# Altium schematic symbol library Sensor_Current.SchLib: 253 symbols (part 1 of 3)
Pins are listed as number, name and electrical type; pins without a type are passive.

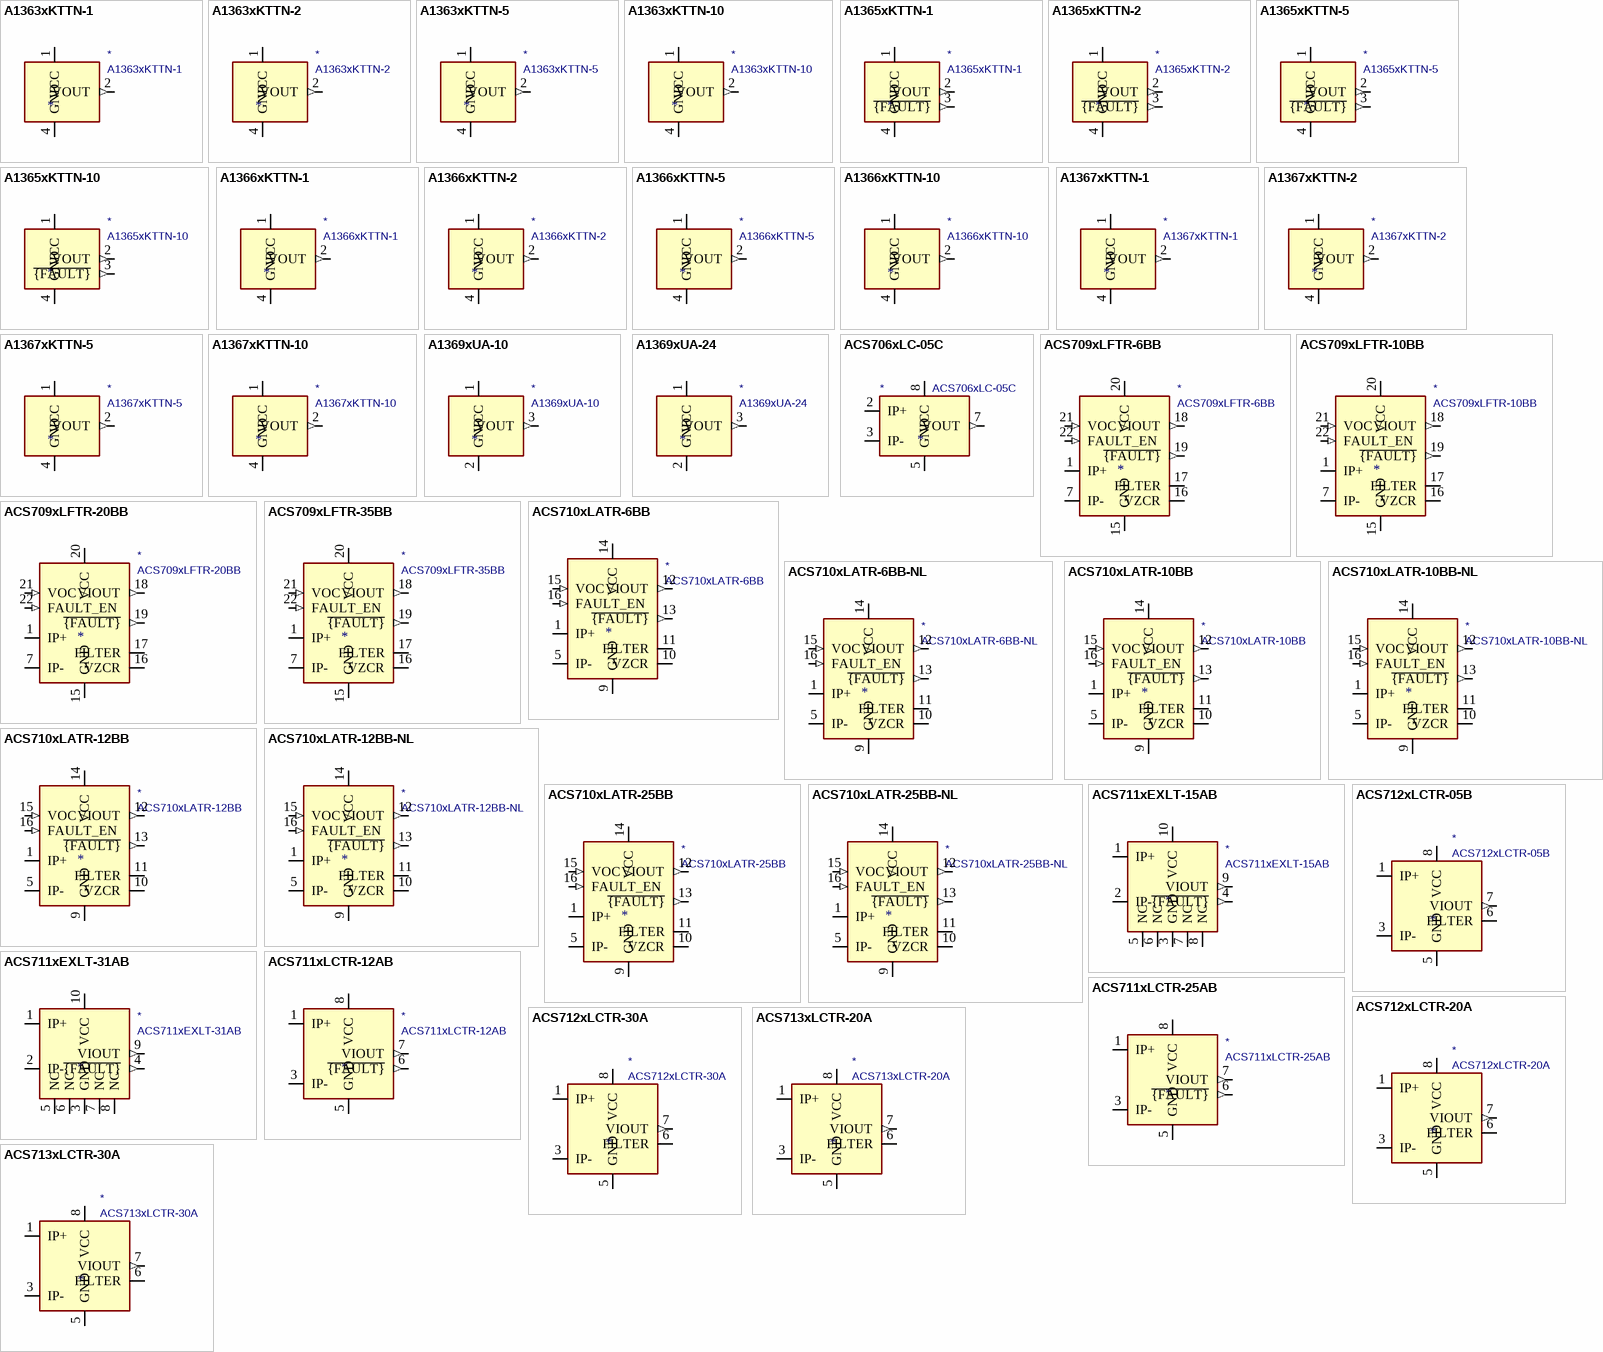
[diagram p0: symbols A1363xKTTN-1 to ACS713xLCTR-30A]

## A1363xKTTN-1
designator *  value A1363xKTTN-1
ki_keywords: hall effect current monitor sensor isolated; ki_description: Programmable Linear Hall Effect Sensor, +0.6 to +1.3mV/G, SIP-4; ki_fp_filters: Allegro*SIP*; Footprint: Sensor_Current:Allegro_SIP-4; Supplier: http://www.allegromicro.com/~/media/Files/Datasheets/A1363-Datasheet.ashx?la=en
footprint Allegro_SIP-4
pins: 1 VCC (power), 2 VOUT (out), 3 NC (in) hidden, 4 GND (power)

## A1363xKTTN-2
designator *  value A1363xKTTN-2
ki_keywords: hall effect current monitor sensor isolated; ki_description: Programmable Linear Hall Effect Sensor, +1.3 to +2.9mV/G, SIP-4; ki_fp_filters: Allegro*SIP*; Footprint: Sensor_Current:Allegro_SIP-4; Supplier: http://www.allegromicro.com/~/media/Files/Datasheets/A1363-Datasheet.ashx?la=en
footprint Allegro_SIP-4
pins: 1 VCC (power), 2 VOUT (out), 3 NC (in) hidden, 4 GND (power)

## A1363xKTTN-5
designator *  value A1363xKTTN-5
ki_keywords: hall effect current monitor sensor isolated; ki_description: Programmable Linear Hall Effect Sensor, +2.9 to +6.4mV/G, SIP-4; ki_fp_filters: Allegro*SIP*; Footprint: Sensor_Current:Allegro_SIP-4; Supplier: http://www.allegromicro.com/~/media/Files/Datasheets/A1363-Datasheet.ashx?la=en
footprint Allegro_SIP-4
pins: 1 VCC (power), 2 VOUT (out), 3 NC (in) hidden, 4 GND (power)

## A1363xKTTN-10
designator *  value A1363xKTTN-10
ki_keywords: hall effect current monitor sensor isolated; ki_description: Programmable Linear Hall Effect Sensor, +6.4 to +14mV/G, SIP-4; ki_fp_filters: Allegro*SIP*; Footprint: Sensor_Current:Allegro_SIP-4; Supplier: http://www.allegromicro.com/~/media/Files/Datasheets/A1363-Datasheet.ashx?la=en
footprint Allegro_SIP-4
pins: 1 VCC (power), 2 VOUT (out), 3 NC (in) hidden, 4 GND (power)

## A1365xKTTN-1
designator *  value A1365xKTTN-1
ki_keywords: hall effect current monitor sensor isolated; ki_description: Programmable Linear Hall Effect Sensor, +0.6 to +1.3mV/G, SIP-4; ki_fp_filters: Allegro*SIP*; Footprint: Sensor_Current:Allegro_SIP-4; Supplier: http://www.allegromicro.com/~/media/Files/Datasheets/A1365-Datasheet.ashx?la=en
footprint Allegro_SIP-4
pins: 1 VCC (power), 2 VOUT (out), 3 ~{{FAULT}} (out), 4 GND (power)

## A1365xKTTN-2
designator *  value A1365xKTTN-2
ki_keywords: hall effect current monitor sensor isolated; ki_description: Programmable Linear Hall Effect Sensor, +1.3 to +2.9mV/G, SIP-4; ki_fp_filters: Allegro*SIP*; Footprint: Sensor_Current:Allegro_SIP-4; Supplier: http://www.allegromicro.com/~/media/Files/Datasheets/A1365-Datasheet.ashx?la=en
footprint Allegro_SIP-4
pins: 1 VCC (power), 2 VOUT (out), 3 ~{{FAULT}} (out), 4 GND (power)

## A1365xKTTN-5
designator *  value A1365xKTTN-5
ki_keywords: hall effect current monitor sensor isolated; ki_description: Programmable Linear Hall Effect Sensor, +2.9 to +6.4mV/G, SIP-4; ki_fp_filters: Allegro*SIP*; Footprint: Sensor_Current:Allegro_SIP-4; Supplier: http://www.allegromicro.com/~/media/Files/Datasheets/A1365-Datasheet.ashx?la=en
footprint Allegro_SIP-4
pins: 1 VCC (power), 2 VOUT (out), 3 ~{{FAULT}} (out), 4 GND (power)

## A1365xKTTN-10
designator *  value A1365xKTTN-10
ki_keywords: hall effect current monitor sensor isolated; ki_description: Programmable Linear Hall Effect Sensor, +6.4 to +14mV/G, SIP-4; ki_fp_filters: Allegro*SIP*; Footprint: Sensor_Current:Allegro_SIP-4; Supplier: http://www.allegromicro.com/~/media/Files/Datasheets/A1365-Datasheet.ashx?la=en
footprint Allegro_SIP-4
pins: 1 VCC (power), 2 VOUT (out), 3 ~{{FAULT}} (out), 4 GND (power)

## A1366xKTTN-1
designator *  value A1366xKTTN-1
ki_keywords: hall effect current monitor sensor isolated; ki_description: Programmable Linear Hall Effect Sensor, +1mV/G, SIP-4; ki_fp_filters: Allegro*SIP*; Footprint: Sensor_Current:Allegro_SIP-4; Supplier: http://www.allegromicro.com/~/media/Files/Datasheets/A1366-Datasheet.ashx?la=en
footprint Allegro_SIP-4
pins: 1 VCC (power), 2 VOUT (out), 3 NC (in) hidden, 4 GND (power)

## A1366xKTTN-2
designator *  value A1366xKTTN-2
ki_keywords: hall effect current monitor sensor isolated; ki_description: Programmable Linear Hall Effect Sensor, +2.5mV/G, SIP-4; ki_fp_filters: Allegro*SIP*; Footprint: Sensor_Current:Allegro_SIP-4; Supplier: http://www.allegromicro.com/~/media/Files/Datasheets/A1366-Datasheet.ashx?la=en
footprint Allegro_SIP-4
pins: 1 VCC (power), 2 VOUT (out), 3 NC (in) hidden, 4 GND (power)

## A1366xKTTN-5
designator *  value A1366xKTTN-5
ki_keywords: hall effect current monitor sensor isolated; ki_description: Programmable Linear Hall Effect Sensor, +5mV/G, SIP-4; ki_fp_filters: Allegro*SIP*; Footprint: Sensor_Current:Allegro_SIP-4; Supplier: http://www.allegromicro.com/~/media/Files/Datasheets/A1366-Datasheet.ashx?la=en
footprint Allegro_SIP-4
pins: 1 VCC (power), 2 VOUT (out), 3 NC (in) hidden, 4 GND (power)

## A1366xKTTN-10
designator *  value A1366xKTTN-10
ki_keywords: hall effect current monitor sensor isolated; ki_description: Programmable Linear Hall Effect Sensor, +10mV/G, SIP-4; ki_fp_filters: Allegro*SIP*; Footprint: Sensor_Current:Allegro_SIP-4; Supplier: http://www.allegromicro.com/~/media/Files/Datasheets/A1366-Datasheet.ashx?la=en
footprint Allegro_SIP-4
pins: 1 VCC (power), 2 VOUT (out), 3 NC (in) hidden, 4 GND (power)

## A1367xKTTN-1
designator *  value A1367xKTTN-1
ki_keywords: hall effect current monitor sensor isolated; ki_description: Programmable Linear Hall Effect Sensor, +0.6 to +1.3mV/G, SIP-4; ki_fp_filters: Allegro*SIP*; Footprint: Sensor_Current:Allegro_SIP-4; Supplier: http://www.allegromicro.com/~/media/Files/Datasheets/A1367-Datasheet.ashx?la=en
footprint Allegro_SIP-4
pins: 1 VCC (power), 2 VOUT (out), 3 NC (in) hidden, 4 GND (power)

## A1367xKTTN-2
designator *  value A1367xKTTN-2
ki_keywords: hall effect current monitor sensor isolated; ki_description: Programmable Linear Hall Effect Sensor, +1.3 to +2.9mV/G, SIP-4; ki_fp_filters: Allegro*SIP*; Footprint: Sensor_Current:Allegro_SIP-4; Supplier: http://www.allegromicro.com/~/media/Files/Datasheets/A1367-Datasheet.ashx?la=en
footprint Allegro_SIP-4
pins: 1 VCC (power), 2 VOUT (out), 3 NC (in) hidden, 4 GND (power)

## A1367xKTTN-5
designator *  value A1367xKTTN-5
ki_keywords: hall effect current monitor sensor isolated; ki_description: Programmable Linear Hall Effect Sensor, +2.9 to +6.4mV/G, SIP-4; ki_fp_filters: Allegro*SIP*; Footprint: Sensor_Current:Allegro_SIP-4; Supplier: http://www.allegromicro.com/~/media/Files/Datasheets/A1367-Datasheet.ashx?la=en
footprint Allegro_SIP-4
pins: 1 VCC (power), 2 VOUT (out), 3 NC (in) hidden, 4 GND (power)

## A1367xKTTN-10
designator *  value A1367xKTTN-10
ki_keywords: hall effect current monitor sensor isolated; ki_description: Programmable Linear Hall Effect Sensor, +6.4 to +14mV/G, SIP-4; ki_fp_filters: Allegro*SIP*; Footprint: Sensor_Current:Allegro_SIP-4; Supplier: http://www.allegromicro.com/~/media/Files/Datasheets/A1367-Datasheet.ashx?la=en
footprint Allegro_SIP-4
pins: 1 VCC (power), 2 VOUT (out), 3 NC (in) hidden, 4 GND (power)

## A1369xUA-10
designator *  value A1369xUA-10
ki_keywords: hall effect current monitor sensor isolated; ki_description: Programmable Linear Hall Effect Sensor, -8.5 to -12.5mV/G, SIP-3; ki_fp_filters: Allegro*SIP*; Footprint: Sensor_Current:Allegro_SIP-3; Supplier: http://www.allegromicro.com/~/media/Files/Datasheets/A1369-Datasheet.ashx?la=en
footprint Allegro_SIP-3
pins: 1 VCC (power), 2 GND (power), 3 VOUT (out)

## A1369xUA-24
designator *  value A1369xUA-24
ki_keywords: hall effect current monitor sensor isolated; ki_description: Programmable Linear Hall Effect Sensor, -22 to -26mV/G, SIP-3; ki_fp_filters: Allegro*SIP*; Footprint: Sensor_Current:Allegro_SIP-3; Supplier: http://www.allegromicro.com/~/media/Files/Datasheets/A1369-Datasheet.ashx?la=en
footprint Allegro_SIP-3
pins: 1 VCC (power), 2 GND (power), 3 VOUT (out)

## ACS706xLC-05C
designator *  value ACS706xLC-05C
ki_keywords: hall effect current monitor sensor isolated obsolete; ki_description: ±15A Bidirectional Hall Effect Linear Current Sensor, +5.0V supply, 133mV/A, SOIC-8, OBSOLETE; ki_fp_filters: SOIC*3.9x4.9mm*P1.27mm*; Footprint: Package_SO:SOIC-8_3.9x4.9mm_P1.27mm; Supplier: http://www.allegromicro.com/~/media/Files/Datasheets/ACS706ELC-05C-Datasheet.ashx
footprint SOIC-8_3.9x4.9mm_P1.27mm
pins: 1 IP+ hidden, 2 IP+, 3 IP-, 4 IP- hidden, 5 GND (power), 6 NC (in) hidden, 7 VOUT (out), 8 VCC (power)

## ACS709xLFTR-6BB
designator *  value ACS709xLFTR-6BB
ki_keywords: hall effect current monitor sensor isolated; ki_description: ±15A Bidirectional, Hall-Effect Current Sensor, +3.3V to +5.0V supply, 90mV/A @ +3.3V, QSOP-24; ki_fp_filters: Allegro*QSOP*3.9x8.7mm*P0.635mm*; Footprint: Sensor_Current:Allegro_QSOP-24_3.9x8.7mm_P0.635mm; Supplier: http://www.allegromicro.com/~/media/Files/Datasheets/ACS709-Datasheet.ashx?la=en
footprint Allegro_QSOP-24_3.9x8.7mm_P0.635mm
pins: 1 IP+, 2 IP+ hidden, 3 IP+ hidden, 4 IP+ hidden, 5 IP+ hidden, 6 IP+ hidden, 7 IP-, 8 IP- hidden, 9 IP- hidden, 10 IP- hidden, 11 IP- hidden, 12 IP- hidden, 13 NC (in) hidden, 14 NC (in) hidden, 15 GND (power), 16 VZCR, 17 FILTER, 18 VIOUT (out), 19 ~{{FAULT}} (out), 20 VCC (power), 21 VOC (in), 22 FAULT_EN (in), 23 NC (in) hidden, 24 NC (in) hidden

## ACS709xLFTR-10BB
designator *  value ACS709xLFTR-10BB
ki_keywords: hall effect current monitor sensor isolated; ki_description: ±24A Bidirectional, Hall-Effect Current Sensor, +3.3V to +5.0V supply, 85mV/A @ +3.3V, QSOP-24; ki_fp_filters: Allegro*QSOP*3.9x8.7mm*P0.635mm*; Footprint: Sensor_Current:Allegro_QSOP-24_3.9x8.7mm_P0.635mm; Supplier: http://www.allegromicro.com/~/media/Files/Datasheets/ACS709-Datasheet.ashx?la=en
footprint Allegro_QSOP-24_3.9x8.7mm_P0.635mm
pins: 1 IP+, 2 IP+ hidden, 3 IP+ hidden, 4 IP+ hidden, 5 IP+ hidden, 6 IP+ hidden, 7 IP-, 8 IP- hidden, 9 IP- hidden, 10 IP- hidden, 11 IP- hidden, 12 IP- hidden, 13 NC (in) hidden, 14 NC (in) hidden, 15 GND (power), 16 VZCR, 17 FILTER, 18 VIOUT (out), 19 ~{{FAULT}} (out), 20 VCC (power), 21 VOC (in), 22 FAULT_EN (in), 23 NC (in) hidden, 24 NC (in) hidden

## ACS709xLFTR-20BB
designator *  value ACS709xLFTR-20BB
ki_keywords: hall effect current monitor sensor isolated; ki_description: ±37.5A Bidirectional, Hall-Effect Current Sensor, +3.3V to +5.0V supply, 56mV/A @ +3.3V, QSOP-24; ki_fp_filters: Allegro*QSOP*3.9x8.7mm*P0.635mm*; Footprint: Sensor_Current:Allegro_QSOP-24_3.9x8.7mm_P0.635mm; Supplier: http://www.allegromicro.com/~/media/Files/Datasheets/ACS709-Datasheet.ashx?la=en
footprint Allegro_QSOP-24_3.9x8.7mm_P0.635mm
pins: 1 IP+, 2 IP+ hidden, 3 IP+ hidden, 4 IP+ hidden, 5 IP+ hidden, 6 IP+ hidden, 7 IP-, 8 IP- hidden, 9 IP- hidden, 10 IP- hidden, 11 IP- hidden, 12 IP- hidden, 13 NC (in) hidden, 14 NC (in) hidden, 15 GND (power), 16 VZCR, 17 FILTER, 18 VIOUT (out), 19 ~{{FAULT}} (out), 20 VCC (power), 21 VOC (in), 22 FAULT_EN (in), 23 NC (in) hidden, 24 NC (in) hidden

## ACS709xLFTR-35BB
designator *  value ACS709xLFTR-35BB
ki_keywords: hall effect current monitor sensor isolated; ki_description: ±75A Bidirectional, Hall-Effect Current Sensor, +3.3V to +5.0V supply, 28mV/A @ +3.3V, QSOP-24; ki_fp_filters: Allegro*QSOP*3.9x8.7mm*P0.635mm*; Footprint: Sensor_Current:Allegro_QSOP-24_3.9x8.7mm_P0.635mm; Supplier: http://www.allegromicro.com/~/media/Files/Datasheets/ACS709-Datasheet.ashx?la=en
footprint Allegro_QSOP-24_3.9x8.7mm_P0.635mm
pins: 1 IP+, 2 IP+ hidden, 3 IP+ hidden, 4 IP+ hidden, 5 IP+ hidden, 6 IP+ hidden, 7 IP-, 8 IP- hidden, 9 IP- hidden, 10 IP- hidden, 11 IP- hidden, 12 IP- hidden, 13 NC (in) hidden, 14 NC (in) hidden, 15 GND (power), 16 VZCR, 17 FILTER, 18 VIOUT (out), 19 ~{{FAULT}} (out), 20 VCC (power), 21 VOC (in), 22 FAULT_EN (in), 23 NC (in) hidden, 24 NC (in) hidden

## ACS710xLATR-6BB
designator *  value ACS710xLATR-6BB
ki_keywords: hall effect current monitor sensor isolated; ki_description: ±6A Bidirectional, Hall-Effect Current Sensor, Latched Fault, +3.3V to +5.0V supply, 151mV/A @ +5.0V, SOIC-16W; ki_fp_filters: SOIC*7.5x10.3mm*P1.27mm*; Footprint: Package_SO:SOIC-16W_7.5x10.3mm_P1.27mm; Supplier: http://www.allegromicro.com/~/media/Files/Datasheets/ACS710-Datasheet.ashx?la=en
footprint SOIC-16W_7.5x10.3mm_P1.27mm
pins: 1 IP+, 2 IP+ hidden, 3 IP+ hidden, 4 IP+ hidden, 5 IP-, 6 IP- hidden, 7 IP- hidden, 8 IP- hidden, 9 GND (power), 10 VZCR, 11 FILTER, 12 VIOUT (out), 13 ~{{FAULT}} (out), 14 VCC (power), 15 VOC (in), 16 FAULT_EN (in)

## ACS710xLATR-6BB-NL
designator *  value ACS710xLATR-6BB-NL
ki_keywords: hall effect current monitor sensor isolated; ki_description: ±6A Bidirectional, Hall-Effect Current Sensor, +3.3V to +5.0V supply, 151mV/A @ +5.0V, SOIC-16W; ki_fp_filters: SOIC*7.5x10.3mm*P1.27mm*; Footprint: Package_SO:SOIC-16W_7.5x10.3mm_P1.27mm; Supplier: http://www.allegromicro.com/~/media/Files/Datasheets/ACS710-Datasheet.ashx?la=en
footprint SOIC-16W_7.5x10.3mm_P1.27mm
pins: 1 IP+, 2 IP+ hidden, 3 IP+ hidden, 4 IP+ hidden, 5 IP-, 6 IP- hidden, 7 IP- hidden, 8 IP- hidden, 9 GND (power), 10 VZCR, 11 FILTER, 12 VIOUT (out), 13 ~{{FAULT}} (out), 14 VCC (power), 15 VOC (in), 16 FAULT_EN (in)

## ACS710xLATR-10BB
designator *  value ACS710xLATR-10BB
ki_keywords: hall effect current monitor sensor isolated; ki_description: ±12A Bidirectional, Hall-Effect Current Sensor, Latched Fault, +3.3V to +5.0V supply, 85mV/A @ +5.0V, SOIC-16W; ki_fp_filters: SOIC*7.5x10.3mm*P1.27mm*; Footprint: Package_SO:SOIC-16W_7.5x10.3mm_P1.27mm; Supplier: http://www.allegromicro.com/~/media/Files/Datasheets/ACS710-Datasheet.ashx?la=en
footprint SOIC-16W_7.5x10.3mm_P1.27mm
pins: 1 IP+, 2 IP+ hidden, 3 IP+ hidden, 4 IP+ hidden, 5 IP-, 6 IP- hidden, 7 IP- hidden, 8 IP- hidden, 9 GND (power), 10 VZCR, 11 FILTER, 12 VIOUT (out), 13 ~{{FAULT}} (out), 14 VCC (power), 15 VOC (in), 16 FAULT_EN (in)

## ACS710xLATR-10BB-NL
designator *  value ACS710xLATR-10BB-NL
ki_keywords: hall effect current monitor sensor isolated; ki_description: ±12A Bidirectional, Hall-Effect Current Sensor, +3.3V to +5.0V supply, 85mV/A @ +5.0V, SOIC-16W; ki_fp_filters: SOIC*7.5x10.3mm*P1.27mm*; Footprint: Package_SO:SOIC-16W_7.5x10.3mm_P1.27mm; Supplier: http://www.allegromicro.com/~/media/Files/Datasheets/ACS710-Datasheet.ashx?la=en
footprint SOIC-16W_7.5x10.3mm_P1.27mm
pins: 1 IP+, 2 IP+ hidden, 3 IP+ hidden, 4 IP+ hidden, 5 IP-, 6 IP- hidden, 7 IP- hidden, 8 IP- hidden, 9 GND (power), 10 VZCR, 11 FILTER, 12 VIOUT (out), 13 ~{{FAULT}} (out), 14 VCC (power), 15 VOC (in), 16 FAULT_EN (in)

## ACS710xLATR-12BB
designator *  value ACS710xLATR-12BB
ki_keywords: hall effect current monitor sensor isolated; ki_description: ±12.5A Bidirectional, Hall-Effect Current Sensor, Latched Fault, +3.3V to +5.0V supply, 56mV/A @ +5.0V, SOIC-16W; ki_fp_filters: SOIC*7.5x10.3mm*P1.27mm*; Footprint: Package_SO:SOIC-16W_7.5x10.3mm_P1.27mm; Supplier: http://www.allegromicro.com/~/media/Files/Datasheets/ACS710-Datasheet.ashx?la=en
footprint SOIC-16W_7.5x10.3mm_P1.27mm
pins: 1 IP+, 2 IP+ hidden, 3 IP+ hidden, 4 IP+ hidden, 5 IP-, 6 IP- hidden, 7 IP- hidden, 8 IP- hidden, 9 GND (power), 10 VZCR, 11 FILTER, 12 VIOUT (out), 13 ~{{FAULT}} (out), 14 VCC (power), 15 VOC (in), 16 FAULT_EN (in)

## ACS710xLATR-12BB-NL
designator *  value ACS710xLATR-12BB-NL
ki_keywords: hall effect current monitor sensor isolated; ki_description: ±12.5A Bidirectional, Hall-Effect Current Sensor, +3.3V to +5.0V supply, 56mV/A @ +5.0V, SOIC-16W; ki_fp_filters: SOIC*7.5x10.3mm*P1.27mm*; Footprint: Package_SO:SOIC-16W_7.5x10.3mm_P1.27mm; Supplier: http://www.allegromicro.com/~/media/Files/Datasheets/ACS710-Datasheet.ashx?la=en
footprint SOIC-16W_7.5x10.3mm_P1.27mm
pins: 1 IP+, 2 IP+ hidden, 3 IP+ hidden, 4 IP+ hidden, 5 IP-, 6 IP- hidden, 7 IP- hidden, 8 IP- hidden, 9 GND (power), 10 VZCR, 11 FILTER, 12 VIOUT (out), 13 ~{{FAULT}} (out), 14 VCC (power), 15 VOC (in), 16 FAULT_EN (in)

## ACS710xLATR-25BB
designator *  value ACS710xLATR-25BB
ki_keywords: hall effect current monitor sensor isolated; ki_description: ±25A Bidirectional, Hall-Effect Current Sensor, Latched Fault, +3.3V to +5.0V supply, 28mV/A @ +5.0V, SOIC-16W; ki_fp_filters: SOIC*7.5x10.3mm*P1.27mm*; Footprint: Package_SO:SOIC-16W_7.5x10.3mm_P1.27mm; Supplier: http://www.allegromicro.com/~/media/Files/Datasheets/ACS710-Datasheet.ashx?la=en
footprint SOIC-16W_7.5x10.3mm_P1.27mm
pins: 1 IP+, 2 IP+ hidden, 3 IP+ hidden, 4 IP+ hidden, 5 IP-, 6 IP- hidden, 7 IP- hidden, 8 IP- hidden, 9 GND (power), 10 VZCR, 11 FILTER, 12 VIOUT (out), 13 ~{{FAULT}} (out), 14 VCC (power), 15 VOC (in), 16 FAULT_EN (in)

## ACS710xLATR-25BB-NL
designator *  value ACS710xLATR-25BB-NL
ki_keywords: hall effect current monitor sensor isolated; ki_description: ±25A Bidirectional, Hall-Effect Current Sensor, +3.3V to +5.0V supply, 28mV/A @ +5.0V, SOIC-16W; ki_fp_filters: SOIC*7.5x10.3mm*P1.27mm*; Footprint: Package_SO:SOIC-16W_7.5x10.3mm_P1.27mm; Supplier: http://www.allegromicro.com/~/media/Files/Datasheets/ACS710-Datasheet.ashx?la=en
footprint SOIC-16W_7.5x10.3mm_P1.27mm
pins: 1 IP+, 2 IP+ hidden, 3 IP+ hidden, 4 IP+ hidden, 5 IP-, 6 IP- hidden, 7 IP- hidden, 8 IP- hidden, 9 GND (power), 10 VZCR, 11 FILTER, 12 VIOUT (out), 13 ~{{FAULT}} (out), 14 VCC (power), 15 VOC (in), 16 FAULT_EN (in)

## ACS711xEXLT-15AB
designator *  value ACS711xEXLT-15AB
ki_keywords: hall effect current monitor sensor isolated; ki_description: ±15A Bidirectional Hall-Effect Current Sensor, +3.3V supply, 90mV/A, QFN-12; ki_fp_filters: Allegro*QFN*EP*3x3mm*P0.5mm*; Footprint: Sensor_Current:Allegro_QFN-12-10-1EP_3x3mm_P0.5mm; Supplier: http://www.allegromicro.com/~/Media/Files/Datasheets/ACS711-Datasheet.ashx
footprint Allegro_QFN-12-10-1EP_3x3mm_P0.5mm
pins: 1 IP+, 2 IP-, 3 GND (power), 4 ~{{FAULT}} (out), 5 NC, 6 NC, 7 NC, 8 NC, 9 VIOUT (out), 10 VCC (power)

## ACS711xEXLT-31AB
designator *  value ACS711xEXLT-31AB
ki_keywords: hall effect current monitor sensor isolated; ki_description: ±31A Bidirectional, Hall-Effect Current Sensor, +3.3V supply, 45mV/A, QFN-12; ki_fp_filters: Allegro*QFN*EP*3x3mm*P0.5mm*; Footprint: Sensor_Current:Allegro_QFN-12-10-1EP_3x3mm_P0.5mm; Supplier: http://www.allegromicro.com/~/Media/Files/Datasheets/ACS711-Datasheet.ashx
footprint Allegro_QFN-12-10-1EP_3x3mm_P0.5mm
pins: 1 IP+, 2 IP-, 3 GND (power), 4 ~{{FAULT}} (out), 5 NC, 6 NC, 7 NC, 8 NC, 9 VIOUT (out), 10 VCC (power)

## ACS711xLCTR-12AB
designator *  value ACS711xLCTR-12AB
ki_keywords: hall effect current monitor sensor isolated; ki_description: ±12.5A Bidirectional Hall-Effect Current Sensor, +3.3V supply, 110mV/A, SOIC-8; ki_fp_filters: SOIC*3.9x4.9mm*P1.27mm*; Footprint: Package_SO:SOIC-8_3.9x4.9mm_P1.27mm; Supplier: http://www.allegromicro.com/~/Media/Files/Datasheets/ACS711-Datasheet.ashx
footprint SOIC-8_3.9x4.9mm_P1.27mm
pins: 1 IP+, 2 IP+ hidden, 3 IP-, 4 IP- hidden, 5 GND (power), 6 ~{{FAULT}} (out), 7 VIOUT (out), 8 VCC (power)

## ACS711xLCTR-25AB
designator *  value ACS711xLCTR-25AB
ki_keywords: hall effect current monitor sensor isolated; ki_description: ±25A, Bidirectional, Hall-Effect Current Sensor, +3.3V supply, 55mV/A, SOIC-8; ki_fp_filters: SOIC*3.9x4.9mm*P1.27mm*; Footprint: Package_SO:SOIC-8_3.9x4.9mm_P1.27mm; Supplier: http://www.allegromicro.com/~/Media/Files/Datasheets/ACS711-Datasheet.ashx
footprint SOIC-8_3.9x4.9mm_P1.27mm
pins: 1 IP+, 2 IP+ hidden, 3 IP-, 4 IP- hidden, 5 GND (power), 6 ~{{FAULT}} (out), 7 VIOUT (out), 8 VCC (power)

## ACS712xLCTR-05B
designator *  value ACS712xLCTR-05B
ki_keywords: hall effect current monitor sensor isolated; ki_description: ±5A Bidirectional Hall-Effect Current Sensor, +5.0V supply, 185mV/A, SOIC-8; ki_fp_filters: SOIC*3.9x4.9m*P1.27mm*; Footprint: Package_SO:SOIC-8_3.9x4.9mm_P1.27mm; Supplier: http://www.allegromicro.com/~/media/Files/Datasheets/ACS712-Datasheet.ashx?la=en
footprint SOIC-8_3.9x4.9mm_P1.27mm
pins: 1 IP+, 2 IP+ hidden, 3 IP-, 4 IP- hidden, 5 GND (power), 6 FILTER, 7 VIOUT (out), 8 VCC (power)

## ACS712xLCTR-20A
designator *  value ACS712xLCTR-20A
ki_keywords: hall effect current monitor sensor isolated; ki_description: ±20A Bidirectional Hall-Effect Current Sensor, +5.0V supply, 100mV/A, SOIC-8; ki_fp_filters: SOIC*3.9x4.9m*P1.27mm*; Footprint: Package_SO:SOIC-8_3.9x4.9mm_P1.27mm; Supplier: http://www.allegromicro.com/~/media/Files/Datasheets/ACS712-Datasheet.ashx?la=en
footprint SOIC-8_3.9x4.9mm_P1.27mm
pins: 1 IP+, 2 IP+ hidden, 3 IP-, 4 IP- hidden, 5 GND (power), 6 FILTER, 7 VIOUT (out), 8 VCC (power)

## ACS712xLCTR-30A
designator *  value ACS712xLCTR-30A
ki_keywords: hall effect current monitor sensor isolated; ki_description: ±30A Bidirectional Hall-Effect Current Sensor, +5.0V supply, 66mV/A, SOIC-8; ki_fp_filters: SOIC*3.9x4.9m*P1.27mm*; Footprint: Package_SO:SOIC-8_3.9x4.9mm_P1.27mm; Supplier: http://www.allegromicro.com/~/media/Files/Datasheets/ACS712-Datasheet.ashx?la=en
footprint SOIC-8_3.9x4.9mm_P1.27mm
pins: 1 IP+, 2 IP+ hidden, 3 IP-, 4 IP- hidden, 5 GND (power), 6 FILTER, 7 VIOUT (out), 8 VCC (power)

## ACS713xLCTR-20A
designator *  value ACS713xLCTR-20A
ki_keywords: hall effect current monitor sensor isolated; ki_description: 20A Unidirectional Hall-Effect Current Sensor, +5.0V supply, 185mV/A, SOIC-8; ki_fp_filters: SOIC*3.9x4.9m*P1.27mm*; Footprint: Package_SO:SOIC-8_3.9x4.9mm_P1.27mm; Supplier: http://www.allegromicro.com/~/media/Files/Datasheets/ACS713-Datasheet.ashx?la=en
footprint SOIC-8_3.9x4.9mm_P1.27mm
pins: 1 IP+, 2 IP+ hidden, 3 IP-, 4 IP- hidden, 5 GND (power), 6 FILTER, 7 VIOUT (out), 8 VCC (power)

## ACS713xLCTR-30A
designator *  value ACS713xLCTR-30A
ki_keywords: hall effect current monitor sensor isolated; ki_description: 30A Unidirectional Hall-Effect Current Sensor, +5.0V supply, 133mV/A, SOIC-8; ki_fp_filters: SOIC*3.9x4.9m*P1.27mm*; Footprint: Package_SO:SOIC-8_3.9x4.9mm_P1.27mm; Supplier: http://www.allegromicro.com/~/media/Files/Datasheets/ACS713-Datasheet.ashx?la=en
footprint SOIC-8_3.9x4.9mm_P1.27mm
pins: 1 IP+, 2 IP+ hidden, 3 IP-, 4 IP- hidden, 5 GND (power), 6 FILTER, 7 VIOUT (out), 8 VCC (power)

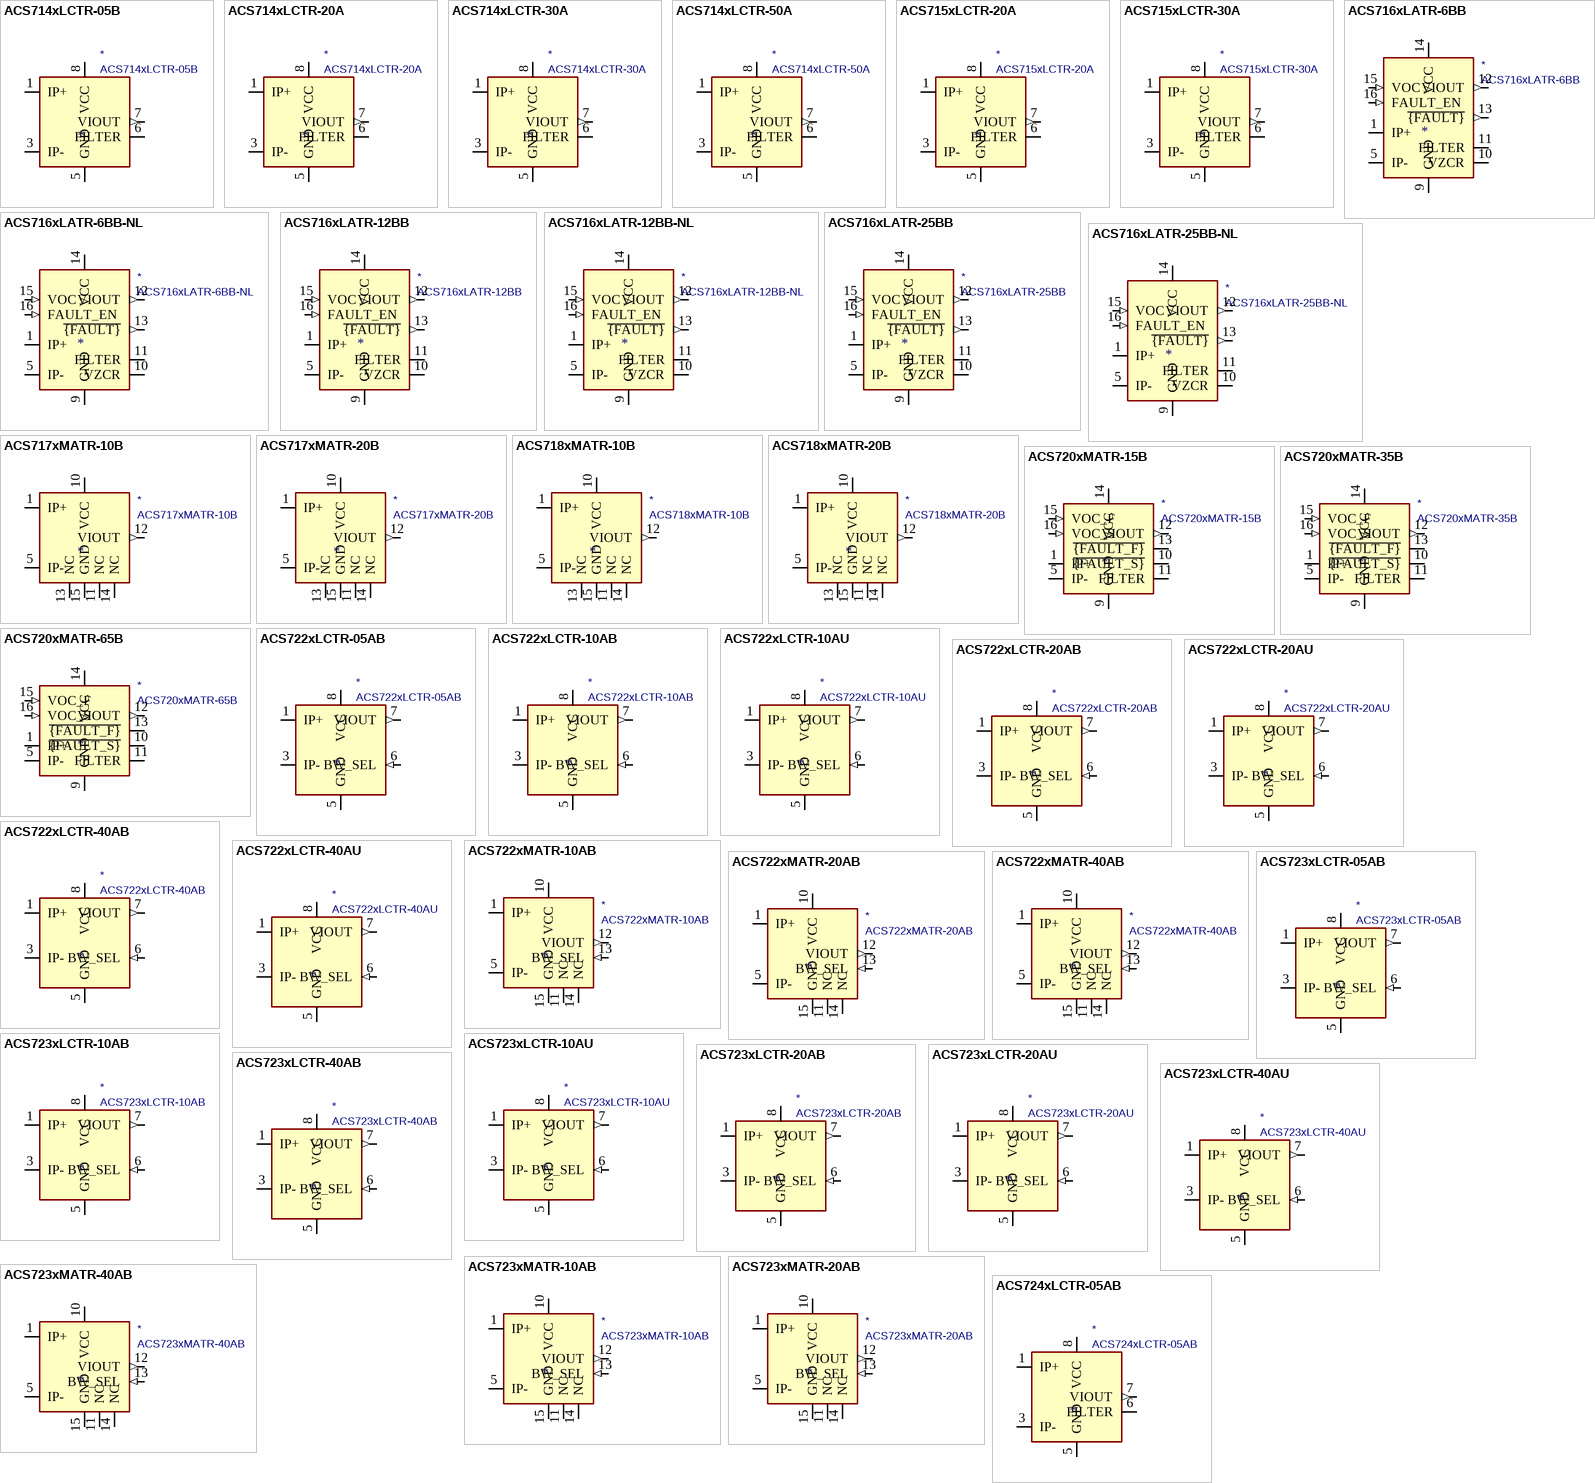
[diagram p1: symbols ACS714xLCTR-05B to ACS724xLCTR-05AB]

## ACS714xLCTR-05B
designator *  value ACS714xLCTR-05B
ki_keywords: hall effect current monitor sensor isolated; ki_description: ±5A Bidirectional Hall-Effect Current Sensor, +5.0V supply, 185mV/A, SOIC-8; ki_fp_filters: SOIC*3.9x4.9m*P1.27mm*; Footprint: Package_SO:SOIC-8_3.9x4.9mm_P1.27mm; Supplier: http://www.allegromicro.com/~/media/Files/Datasheets/ACS714-Datasheet.ashx?la=en
footprint SOIC-8_3.9x4.9mm_P1.27mm
pins: 1 IP+, 2 IP+ hidden, 3 IP-, 4 IP- hidden, 5 GND (power), 6 FILTER, 7 VIOUT (out), 8 VCC (power)

## ACS714xLCTR-20A
designator *  value ACS714xLCTR-20A
ki_keywords: hall effect current monitor sensor isolated; ki_description: ±20A Bidirectional Hall-Effect Current Sensor, +5.0V supply, 100mV/A, SOIC-8; ki_fp_filters: SOIC*3.9x4.9m*P1.27mm*; Footprint: Package_SO:SOIC-8_3.9x4.9mm_P1.27mm; Supplier: http://www.allegromicro.com/~/media/Files/Datasheets/ACS714-Datasheet.ashx?la=en
footprint SOIC-8_3.9x4.9mm_P1.27mm
pins: 1 IP+, 2 IP+ hidden, 3 IP-, 4 IP- hidden, 5 GND (power), 6 FILTER, 7 VIOUT (out), 8 VCC (power)

## ACS714xLCTR-30A
designator *  value ACS714xLCTR-30A
ki_keywords: hall effect current monitor sensor isolated; ki_description: ±30A Bidirectional Hall-Effect Current Sensor, +5.0V supply, 66mV/A, SOIC-8; ki_fp_filters: SOIC*3.9x4.9m*P1.27mm*; Footprint: Package_SO:SOIC-8_3.9x4.9mm_P1.27mm; Supplier: http://www.allegromicro.com/~/media/Files/Datasheets/ACS714-Datasheet.ashx?la=en
footprint SOIC-8_3.9x4.9mm_P1.27mm
pins: 1 IP+, 2 IP+ hidden, 3 IP-, 4 IP- hidden, 5 GND (power), 6 FILTER, 7 VIOUT (out), 8 VCC (power)

## ACS714xLCTR-50A
designator *  value ACS714xLCTR-50A
ki_keywords: hall effect current monitor sensor isolated; ki_description: ±50A Bidirectional Hall-Effect Current Sensor, +5.0V supply, 40mV/A, SOIC-8; ki_fp_filters: SOIC*3.9x4.9m*P1.27mm*; Footprint: Package_SO:SOIC-8_3.9x4.9mm_P1.27mm; Supplier: http://www.allegromicro.com/~/media/Files/Datasheets/ACS714-Datasheet.ashx?la=en
footprint SOIC-8_3.9x4.9mm_P1.27mm
pins: 1 IP+, 2 IP+ hidden, 3 IP-, 4 IP- hidden, 5 GND (power), 6 FILTER, 7 VIOUT (out), 8 VCC (power)

## ACS715xLCTR-20A
designator *  value ACS715xLCTR-20A
ki_keywords: hall effect current monitor sensor isolated; ki_description: 20A Unidirectional Hall-Effect Current Sensor, +5.0V supply, 185mV/A, SOIC-8; ki_fp_filters: SOIC*3.9x4.9m*P1.27mm*; Footprint: Package_SO:SOIC-8_3.9x4.9mm_P1.27mm; Supplier: http://www.allegromicro.com/~/media/Files/Datasheets/ACS715-Datasheet.ashx?la=en
footprint SOIC-8_3.9x4.9mm_P1.27mm
pins: 1 IP+, 2 IP+ hidden, 3 IP-, 4 IP- hidden, 5 GND (power), 6 FILTER, 7 VIOUT (out), 8 VCC (power)

## ACS715xLCTR-30A
designator *  value ACS715xLCTR-30A
ki_keywords: hall effect current monitor sensor isolated; ki_description: 30A Unidirectional Hall-Effect Current Sensor, +5.0V supply, 133mV/A, SOIC-8; ki_fp_filters: SOIC*3.9x4.9m*P1.27mm*; Footprint: Package_SO:SOIC-8_3.9x4.9mm_P1.27mm; Supplier: http://www.allegromicro.com/~/media/Files/Datasheets/ACS715-Datasheet.ashx?la=en
footprint SOIC-8_3.9x4.9mm_P1.27mm
pins: 1 IP+, 2 IP+ hidden, 3 IP-, 4 IP- hidden, 5 GND (power), 6 FILTER, 7 VIOUT (out), 8 VCC (power)

## ACS716xLATR-6BB
designator *  value ACS716xLATR-6BB
ki_keywords: hall effect current monitor sensor isolated; ki_description: ±6A Bidirectional, Hall-Effect Current Sensor, Latched Fault, +3.3V supply, 100mV/A, SOIC-16W; ki_fp_filters: SOIC*7.5x10.3mm*P1.27mm*; Footprint: Package_SO:SOIC-16W_7.5x10.3mm_P1.27mm; Supplier: http://www.allegromicro.com/~/media/Files/Datasheets/ACS716-Datasheet.ashx?la=en
footprint SOIC-16W_7.5x10.3mm_P1.27mm
pins: 1 IP+, 2 IP+ hidden, 3 IP+ hidden, 4 IP+ hidden, 5 IP-, 6 IP- hidden, 7 IP- hidden, 8 IP- hidden, 9 GND (power), 10 VZCR, 11 FILTER, 12 VIOUT (out), 13 ~{{FAULT}} (out), 14 VCC (power), 15 VOC (in), 16 FAULT_EN (in)

## ACS716xLATR-6BB-NL
designator *  value ACS716xLATR-6BB-NL
ki_keywords: hall effect current monitor sensor isolated; ki_description: ±6A Bidirectional, Hall-Effect Current Sensor, +3.3V supply, 100mV/A, SOIC-16W; ki_fp_filters: SOIC*7.5x10.3mm*P1.27mm*; Footprint: Package_SO:SOIC-16W_7.5x10.3mm_P1.27mm; Supplier: http://www.allegromicro.com/~/media/Files/Datasheets/ACS716-Datasheet.ashx?la=en
footprint SOIC-16W_7.5x10.3mm_P1.27mm
pins: 1 IP+, 2 IP+ hidden, 3 IP+ hidden, 4 IP+ hidden, 5 IP-, 6 IP- hidden, 7 IP- hidden, 8 IP- hidden, 9 GND (power), 10 VZCR, 11 FILTER, 12 VIOUT (out), 13 ~{{FAULT}} (out), 14 VCC (power), 15 VOC (in), 16 FAULT_EN (in)

## ACS716xLATR-12BB
designator *  value ACS716xLATR-12BB
ki_keywords: hall effect current monitor sensor isolated; ki_description: ±12.5A Bidirectional, Hall-Effect Current Sensor, Latched Fault, +3.3V supply, 37mV/A, SOIC-16W; ki_fp_filters: SOIC*7.5x10.3mm*P1.27mm*; Footprint: Package_SO:SOIC-16W_7.5x10.3mm_P1.27mm; Supplier: http://www.allegromicro.com/~/media/Files/Datasheets/ACS716-Datasheet.ashx?la=en
footprint SOIC-16W_7.5x10.3mm_P1.27mm
pins: 1 IP+, 2 IP+ hidden, 3 IP+ hidden, 4 IP+ hidden, 5 IP-, 6 IP- hidden, 7 IP- hidden, 8 IP- hidden, 9 GND (power), 10 VZCR, 11 FILTER, 12 VIOUT (out), 13 ~{{FAULT}} (out), 14 VCC (power), 15 VOC (in), 16 FAULT_EN (in)

## ACS716xLATR-12BB-NL
designator *  value ACS716xLATR-12BB-NL
ki_keywords: hall effect current monitor sensor isolated; ki_description: ±12.5A Bidirectional, Hall-Effect Current Sensor, +3.3V supply, 37mV/A, SOIC-16W; ki_fp_filters: SOIC*7.5x10.3mm*P1.27mm*; Footprint: Package_SO:SOIC-16W_7.5x10.3mm_P1.27mm; Supplier: http://www.allegromicro.com/~/media/Files/Datasheets/ACS716-Datasheet.ashx?la=en
footprint SOIC-16W_7.5x10.3mm_P1.27mm
pins: 1 IP+, 2 IP+ hidden, 3 IP+ hidden, 4 IP+ hidden, 5 IP-, 6 IP- hidden, 7 IP- hidden, 8 IP- hidden, 9 GND (power), 10 VZCR, 11 FILTER, 12 VIOUT (out), 13 ~{{FAULT}} (out), 14 VCC (power), 15 VOC (in), 16 FAULT_EN (in)

## ACS716xLATR-25BB
designator *  value ACS716xLATR-25BB
ki_keywords: hall effect current monitor sensor isolated; ki_description: ±25A Bidirectional, Hall-Effect Current Sensor, Latched Fault, +3.3V supply, 18.5mV/A, SOIC-16W; ki_fp_filters: SOIC*7.5x10.3mm*P1.27mm*; Footprint: Package_SO:SOIC-16W_7.5x10.3mm_P1.27mm; Supplier: http://www.allegromicro.com/~/media/Files/Datasheets/ACS716-Datasheet.ashx?la=en
footprint SOIC-16W_7.5x10.3mm_P1.27mm
pins: 1 IP+, 2 IP+ hidden, 3 IP+ hidden, 4 IP+ hidden, 5 IP-, 6 IP- hidden, 7 IP- hidden, 8 IP- hidden, 9 GND (power), 10 VZCR, 11 FILTER, 12 VIOUT (out), 13 ~{{FAULT}} (out), 14 VCC (power), 15 VOC (in), 16 FAULT_EN (in)

## ACS716xLATR-25BB-NL
designator *  value ACS716xLATR-25BB-NL
ki_keywords: hall effect current monitor sensor isolated; ki_description: ±25A Bidirectional, Hall-Effect Current Sensor, +3.3V supply, 18.5mV/A, SOIC-16W; ki_fp_filters: SOIC*7.5x10.3mm*P1.27mm*; Footprint: Package_SO:SOIC-16W_7.5x10.3mm_P1.27mm; Supplier: http://www.allegromicro.com/~/media/Files/Datasheets/ACS716-Datasheet.ashx?la=en
footprint SOIC-16W_7.5x10.3mm_P1.27mm
pins: 1 IP+, 2 IP+ hidden, 3 IP+ hidden, 4 IP+ hidden, 5 IP-, 6 IP- hidden, 7 IP- hidden, 8 IP- hidden, 9 GND (power), 10 VZCR, 11 FILTER, 12 VIOUT (out), 13 ~{{FAULT}} (out), 14 VCC (power), 15 VOC (in), 16 FAULT_EN (in)

## ACS717xMATR-10B
designator *  value ACS717xMATR-10B
ki_keywords: hall effect current monitor sensor isolated; ki_description: ±10A Bidirectional, Hall-Effect Current Sensor, +3.3V supply, 133mV/A, SOIC-16W; ki_fp_filters: SOIC*7.5x10.3mm*P1.27mm*; Footprint: Package_SO:SOIC-16W_7.5x10.3mm_P1.27mm; Supplier: http://www.allegromicro.com/~/media/Files/Datasheets/ACS717-Datasheet.ashx?la=en
footprint SOIC-16W_7.5x10.3mm_P1.27mm
pins: 1 IP+, 2 IP+ hidden, 3 IP+ hidden, 4 IP+ hidden, 5 IP-, 6 IP- hidden, 7 IP- hidden, 8 IP- hidden, 9 NC (in) hidden, 10 VCC (power), 11 NC, 12 VIOUT (out), 13 NC, 14 NC, 15 GND (power), 16 NC (in) hidden

## ACS717xMATR-20B
designator *  value ACS717xMATR-20B
ki_keywords: hall effect current monitor sensor isolated; ki_description: ±20A Bidirectional, Hall-Effect Current Sensor, +3.3V supply, 66mV/A, SOIC-16W; ki_fp_filters: SOIC*7.5x10.3mm*P1.27mm*; Footprint: Package_SO:SOIC-16W_7.5x10.3mm_P1.27mm; Supplier: http://www.allegromicro.com/~/media/Files/Datasheets/ACS717-Datasheet.ashx?la=en
footprint SOIC-16W_7.5x10.3mm_P1.27mm
pins: 1 IP+, 2 IP+ hidden, 3 IP+ hidden, 4 IP+ hidden, 5 IP-, 6 IP- hidden, 7 IP- hidden, 8 IP- hidden, 9 NC (in) hidden, 10 VCC (power), 11 NC, 12 VIOUT (out), 13 NC, 14 NC, 15 GND (power), 16 NC (in) hidden

## ACS718xMATR-10B
designator *  value ACS718xMATR-10B
ki_keywords: hall effect current monitor sensor isolated; ki_description: ±10A Bidirectional, Hall-Effect Current Sensor, +5.0V supply, 200mV/A, SOIC-16W; ki_fp_filters: SOIC*7.5x10.3mm*P1.27mm*; Footprint: Package_SO:SOIC-16W_7.5x10.3mm_P1.27mm; Supplier: http://www.allegromicro.com/~/media/Files/Datasheets/ACS718-Datasheet.ashx?la=en
footprint SOIC-16W_7.5x10.3mm_P1.27mm
pins: 1 IP+, 2 IP+ hidden, 3 IP+ hidden, 4 IP+ hidden, 5 IP-, 6 IP- hidden, 7 IP- hidden, 8 IP- hidden, 9 NC (in) hidden, 10 VCC (power), 11 NC, 12 VIOUT (out), 13 NC, 14 NC, 15 GND (power), 16 NC (in) hidden

## ACS718xMATR-20B
designator *  value ACS718xMATR-20B
ki_keywords: hall effect current monitor sensor isolated; ki_description: ±20A Bidirectional, Hall-Effect Current Sensor, +5.0V supply, 100mV/A, SOIC-16W; ki_fp_filters: SOIC*7.5x10.3mm*P1.27mm*; Footprint: Package_SO:SOIC-16W_7.5x10.3mm_P1.27mm; Supplier: http://www.allegromicro.com/~/media/Files/Datasheets/ACS718-Datasheet.ashx?la=en
footprint SOIC-16W_7.5x10.3mm_P1.27mm
pins: 1 IP+, 2 IP+ hidden, 3 IP+ hidden, 4 IP+ hidden, 5 IP-, 6 IP- hidden, 7 IP- hidden, 8 IP- hidden, 9 NC (in) hidden, 10 VCC (power), 11 NC, 12 VIOUT (out), 13 NC, 14 NC, 15 GND (power), 16 NC (in) hidden

## ACS720xMATR-15B
designator *  value ACS720xMATR-15B
ki_keywords: hall effect current monitor sensor isolated; ki_description: ±15A Bidirectional, Hall-Effect Current Sensor, +5.0V supply, 90mV/A, SOIC-16W; ki_fp_filters: SOIC*7.5x10.3mm*P1.27mm*; Footprint: Package_SO:SOIC-16W_7.5x10.3mm_P1.27mm; Supplier: http://www.allegromicro.com/~/media/Files/Datasheets/ACS720-Datasheet.ashx?la=en
footprint SOIC-16W_7.5x10.3mm_P1.27mm
pins: 1 IP+, 2 IP+ hidden, 3 IP+ hidden, 4 IP+ hidden, 5 IP-, 6 IP- hidden, 7 IP- hidden, 8 IP- hidden, 9 GND (power), 10 ~{{FAULT_S}} (oc), 11 FILTER, 12 VIOUT (out), 13 ~{{FAULT_F}} (oc), 14 VCC (power), 15 VOC_F (in), 16 VOC_S (in)

## ACS720xMATR-35B
designator *  value ACS720xMATR-35B
ki_keywords: hall effect current monitor sensor isolated; ki_description: ±35A Bidirectional, Hall-Effect Current Sensor, +5.0V supply, 38.5mV/A, SOIC-16W; ki_fp_filters: SOIC*7.5x10.3mm*P1.27mm*; Footprint: Package_SO:SOIC-16W_7.5x10.3mm_P1.27mm; Supplier: http://www.allegromicro.com/~/media/Files/Datasheets/ACS720-Datasheet.ashx?la=en
footprint SOIC-16W_7.5x10.3mm_P1.27mm
pins: 1 IP+, 2 IP+ hidden, 3 IP+ hidden, 4 IP+ hidden, 5 IP-, 6 IP- hidden, 7 IP- hidden, 8 IP- hidden, 9 GND (power), 10 ~{{FAULT_S}} (oc), 11 FILTER, 12 VIOUT (out), 13 ~{{FAULT_F}} (oc), 14 VCC (power), 15 VOC_F (in), 16 VOC_S (in)

## ACS720xMATR-65B
designator *  value ACS720xMATR-65B
ki_keywords: hall effect current monitor sensor isolated; ki_description: ±65A Bidirectional, Hall-Effect Current Sensor, +5.0V supply, 20.5mV/A, SOIC-16W; ki_fp_filters: SOIC*7.5x10.3mm*P1.27mm*; Footprint: Package_SO:SOIC-16W_7.5x10.3mm_P1.27mm; Supplier: http://www.allegromicro.com/~/media/Files/Datasheets/ACS720-Datasheet.ashx?la=en
footprint SOIC-16W_7.5x10.3mm_P1.27mm
pins: 1 IP+, 2 IP+ hidden, 3 IP+ hidden, 4 IP+ hidden, 5 IP-, 6 IP- hidden, 7 IP- hidden, 8 IP- hidden, 9 GND (power), 10 ~{{FAULT_S}} (oc), 11 FILTER, 12 VIOUT (out), 13 ~{{FAULT_F}} (oc), 14 VCC (power), 15 VOC_F (in), 16 VOC_S (in)

## ACS722xLCTR-05AB
designator *  value ACS722xLCTR-05AB
ki_keywords: hall effect current monitor sensor isolated; ki_description: ±5A Bidirectional Hall-Effect Current Sensor, +3.3V supply, 264mV/A, SOIC-8; ki_fp_filters: SOIC*3.9x4.9mm*P1.27mm*; Footprint: Package_SO:SOIC-8_3.9x4.9mm_P1.27mm; Supplier: http://www.allegromicro.com/~/media/Files/Datasheets/ACS722-Datasheet.ashx?la=en
footprint SOIC-8_3.9x4.9mm_P1.27mm
pins: 1 IP+, 2 IP+ hidden, 3 IP-, 4 IP- hidden, 5 GND (power), 6 BW_SEL (in), 7 VIOUT (out), 8 VCC (power)

## ACS722xLCTR-10AB
designator *  value ACS722xLCTR-10AB
ki_keywords: hall effect current monitor sensor isolated; ki_description: ±10A Bidirectional Hall-Effect Current Sensor, +3.3V supply, 132mV/A, SOIC-8; ki_fp_filters: SOIC*3.9x4.9mm*P1.27mm*; Footprint: Package_SO:SOIC-8_3.9x4.9mm_P1.27mm; Supplier: http://www.allegromicro.com/~/media/Files/Datasheets/ACS722-Datasheet.ashx?la=en
footprint SOIC-8_3.9x4.9mm_P1.27mm
pins: 1 IP+, 2 IP+ hidden, 3 IP-, 4 IP- hidden, 5 GND (power), 6 BW_SEL (in), 7 VIOUT (out), 8 VCC (power)

## ACS722xLCTR-10AU
designator *  value ACS722xLCTR-10AU
ki_keywords: hall effect current monitor sensor isolated; ki_description: 10A Unidirectional Hall-Effect Current Sensor, +3.3V supply, 264mV/A, SOIC-8; ki_fp_filters: SOIC*3.9x4.9mm*P1.27mm*; Footprint: Package_SO:SOIC-8_3.9x4.9mm_P1.27mm; Supplier: http://www.allegromicro.com/~/media/Files/Datasheets/ACS722-Datasheet.ashx?la=en
footprint SOIC-8_3.9x4.9mm_P1.27mm
pins: 1 IP+, 2 IP+ hidden, 3 IP-, 4 IP- hidden, 5 GND (power), 6 BW_SEL (in), 7 VIOUT (out), 8 VCC (power)

## ACS722xLCTR-20AB
designator *  value ACS722xLCTR-20AB
ki_keywords: hall effect current monitor sensor isolated; ki_description: ±20A Bidirectional Hall-Effect Current Sensor, +3.3V supply, 66mV/A, SOIC-8; ki_fp_filters: SOIC*3.9x4.9mm*P1.27mm*; Footprint: Package_SO:SOIC-8_3.9x4.9mm_P1.27mm; Supplier: http://www.allegromicro.com/~/media/Files/Datasheets/ACS722-Datasheet.ashx?la=en
footprint SOIC-8_3.9x4.9mm_P1.27mm
pins: 1 IP+, 2 IP+ hidden, 3 IP-, 4 IP- hidden, 5 GND (power), 6 BW_SEL (in), 7 VIOUT (out), 8 VCC (power)

## ACS722xLCTR-20AU
designator *  value ACS722xLCTR-20AU
ki_keywords: hall effect current monitor sensor isolated; ki_description: 20A Unidirectional Hall-Effect Current Sensor, +3.3V supply, 132mV/A, SOIC-8; ki_fp_filters: SOIC*3.9x4.9mm*P1.27mm*; Footprint: Package_SO:SOIC-8_3.9x4.9mm_P1.27mm; Supplier: http://www.allegromicro.com/~/media/Files/Datasheets/ACS722-Datasheet.ashx?la=en
footprint SOIC-8_3.9x4.9mm_P1.27mm
pins: 1 IP+, 2 IP+ hidden, 3 IP-, 4 IP- hidden, 5 GND (power), 6 BW_SEL (in), 7 VIOUT (out), 8 VCC (power)

## ACS722xLCTR-40AB
designator *  value ACS722xLCTR-40AB
ki_keywords: hall effect current monitor sensor isolated; ki_description: ±40A Bidirectional Hall-Effect Current Sensor, +3.3V supply, 33mV/A, SOIC-8; ki_fp_filters: SOIC*3.9x4.9mm*P1.27mm*; Footprint: Package_SO:SOIC-8_3.9x4.9mm_P1.27mm; Supplier: http://www.allegromicro.com/~/media/Files/Datasheets/ACS722-Datasheet.ashx?la=en
footprint SOIC-8_3.9x4.9mm_P1.27mm
pins: 1 IP+, 2 IP+ hidden, 3 IP-, 4 IP- hidden, 5 GND (power), 6 BW_SEL (in), 7 VIOUT (out), 8 VCC (power)

## ACS722xLCTR-40AU
designator *  value ACS722xLCTR-40AU
ki_keywords: hall effect current monitor sensor isolated; ki_description: 40A Unidirectional Hall-Effect Current Sensor, +3.3V supply, 66mV/A, SOIC-8; ki_fp_filters: SOIC*3.9x4.9mm*P1.27mm*; Footprint: Package_SO:SOIC-8_3.9x4.9mm_P1.27mm; Supplier: http://www.allegromicro.com/~/media/Files/Datasheets/ACS722-Datasheet.ashx?la=en
footprint SOIC-8_3.9x4.9mm_P1.27mm
pins: 1 IP+, 2 IP+ hidden, 3 IP-, 4 IP- hidden, 5 GND (power), 6 BW_SEL (in), 7 VIOUT (out), 8 VCC (power)

## ACS722xMATR-10AB
designator *  value ACS722xMATR-10AB
ki_keywords: hall effect current monitor sensor isolated; ki_description: ±10A Bidirectional Hall-Effect Current Sensor, +3.3V supply, 132mV/A, SOIC-16; ki_fp_filters: SOIC*7.5x10.3mm*P1.27mm*; Footprint: Package_SO:SOIC-16W_7.5x10.3mm_P1.27mm; Supplier: http://www.allegromicro.com/~/media/Files/Datasheets/ACS722KMA-Datasheet.ashx?la=en
footprint SOIC-16W_7.5x10.3mm_P1.27mm
pins: 1 IP+, 2 IP+ hidden, 3 IP+ hidden, 4 IP+ hidden, 5 IP-, 6 IP- hidden, 7 IP- hidden, 8 IP- hidden, 9 NC (in) hidden, 10 VCC (power), 11 NC, 12 VIOUT (out), 13 BW_SEL (in), 14 NC, 15 GND (power), 16 NC (in) hidden

## ACS722xMATR-20AB
designator *  value ACS722xMATR-20AB
ki_keywords: hall effect current monitor sensor isolated; ki_description: ±20A Bidirectional Hall-Effect Current Sensor, +3.3V supply, 66mV/A, SOIC-16; ki_fp_filters: SOIC*7.5x10.3mm*P1.27mm*; Footprint: Package_SO:SOIC-16W_7.5x10.3mm_P1.27mm; Supplier: http://www.allegromicro.com/~/media/Files/Datasheets/ACS722KMA-Datasheet.ashx?la=en
footprint SOIC-16W_7.5x10.3mm_P1.27mm
pins: 1 IP+, 2 IP+ hidden, 3 IP+ hidden, 4 IP+ hidden, 5 IP-, 6 IP- hidden, 7 IP- hidden, 8 IP- hidden, 9 NC (in) hidden, 10 VCC (power), 11 NC, 12 VIOUT (out), 13 BW_SEL (in), 14 NC, 15 GND (power), 16 NC (in) hidden

## ACS722xMATR-40AB
designator *  value ACS722xMATR-40AB
ki_keywords: hall effect current monitor sensor isolated; ki_description: ±40A Bidirectional Hall-Effect Current Sensor, +3.3V supply, 33mV/A, SOIC-16; ki_fp_filters: SOIC*7.5x10.3mm*P1.27mm*; Footprint: Package_SO:SOIC-16W_7.5x10.3mm_P1.27mm; Supplier: http://www.allegromicro.com/~/media/Files/Datasheets/ACS722KMA-Datasheet.ashx?la=en
footprint SOIC-16W_7.5x10.3mm_P1.27mm
pins: 1 IP+, 2 IP+ hidden, 3 IP+ hidden, 4 IP+ hidden, 5 IP-, 6 IP- hidden, 7 IP- hidden, 8 IP- hidden, 9 NC (in) hidden, 10 VCC (power), 11 NC, 12 VIOUT (out), 13 BW_SEL (in), 14 NC, 15 GND (power), 16 NC (in) hidden

## ACS723xLCTR-05AB
designator *  value ACS723xLCTR-05AB
ki_keywords: hall effect current monitor sensor isolated; ki_description: ±5A Bidirectional Hall-Effect Current Sensor, +5.0V supply, 400mV/A, SOIC-8; ki_fp_filters: SOIC*3.9x4.9mm*P1.27mm*; Footprint: Package_SO:SOIC-8_3.9x4.9mm_P1.27mm; Supplier: http://www.allegromicro.com/~/media/Files/Datasheets/ACS723-Datasheet.ashx?la=en
footprint SOIC-8_3.9x4.9mm_P1.27mm
pins: 1 IP+, 2 IP+ hidden, 3 IP-, 4 IP- hidden, 5 GND (power), 6 BW_SEL (in), 7 VIOUT (out), 8 VCC (power)

## ACS723xLCTR-10AB
designator *  value ACS723xLCTR-10AB
ki_keywords: hall effect current monitor sensor isolated; ki_description: ±10A Bidirectional Hall-Effect Current Sensor, +5.0V supply, 200mV/A, SOIC-8; ki_fp_filters: SOIC*3.9x4.9mm*P1.27mm*; Footprint: Package_SO:SOIC-8_3.9x4.9mm_P1.27mm; Supplier: http://www.allegromicro.com/~/media/Files/Datasheets/ACS723-Datasheet.ashx?la=en
footprint SOIC-8_3.9x4.9mm_P1.27mm
pins: 1 IP+, 2 IP+ hidden, 3 IP-, 4 IP- hidden, 5 GND (power), 6 BW_SEL (in), 7 VIOUT (out), 8 VCC (power)

## ACS723xLCTR-10AU
designator *  value ACS723xLCTR-10AU
ki_keywords: hall effect current monitor sensor isolated; ki_description: 10A Unidirectional Hall-Effect Current Sensor, +5.0V supply, 400mV/A, SOIC-8; ki_fp_filters: SOIC*3.9x4.9mm*P1.27mm*; Footprint: Package_SO:SOIC-8_3.9x4.9mm_P1.27mm; Supplier: http://www.allegromicro.com/~/media/Files/Datasheets/ACS723-Datasheet.ashx?la=en
footprint SOIC-8_3.9x4.9mm_P1.27mm
pins: 1 IP+, 2 IP+ hidden, 3 IP-, 4 IP- hidden, 5 GND (power), 6 BW_SEL (in), 7 VIOUT (out), 8 VCC (power)

## ACS723xLCTR-20AB
designator *  value ACS723xLCTR-20AB
ki_keywords: hall effect current monitor sensor isolated; ki_description: ±20A Bidirectional Hall-Effect Current Sensor, +5.0V supply, 100mV/A, SOIC-8; ki_fp_filters: SOIC*3.9x4.9mm*P1.27mm*; Footprint: Package_SO:SOIC-8_3.9x4.9mm_P1.27mm; Supplier: http://www.allegromicro.com/~/media/Files/Datasheets/ACS723-Datasheet.ashx?la=en
footprint SOIC-8_3.9x4.9mm_P1.27mm
pins: 1 IP+, 2 IP+ hidden, 3 IP-, 4 IP- hidden, 5 GND (power), 6 BW_SEL (in), 7 VIOUT (out), 8 VCC (power)

## ACS723xLCTR-20AU
designator *  value ACS723xLCTR-20AU
ki_keywords: hall effect current monitor sensor isolated; ki_description: 20A Unidirectional Hall-Effect Current Sensor, +5.0V supply, 200mV/A, SOIC-8; ki_fp_filters: SOIC*3.9x4.9mm*P1.27mm*; Footprint: Package_SO:SOIC-8_3.9x4.9mm_P1.27mm; Supplier: http://www.allegromicro.com/~/media/Files/Datasheets/ACS723-Datasheet.ashx?la=en
footprint SOIC-8_3.9x4.9mm_P1.27mm
pins: 1 IP+, 2 IP+ hidden, 3 IP-, 4 IP- hidden, 5 GND (power), 6 BW_SEL (in), 7 VIOUT (out), 8 VCC (power)

## ACS723xLCTR-40AB
designator *  value ACS723xLCTR-40AB
ki_keywords: hall effect current monitor sensor isolated; ki_description: ±40A Bidirectional Hall-Effect Current Sensor, +5.0V supply, 50mV/A, SOIC-8; ki_fp_filters: SOIC*3.9x4.9mm*P1.27mm*; Footprint: Package_SO:SOIC-8_3.9x4.9mm_P1.27mm; Supplier: http://www.allegromicro.com/~/media/Files/Datasheets/ACS723-Datasheet.ashx?la=en
footprint SOIC-8_3.9x4.9mm_P1.27mm
pins: 1 IP+, 2 IP+ hidden, 3 IP-, 4 IP- hidden, 5 GND (power), 6 BW_SEL (in), 7 VIOUT (out), 8 VCC (power)

## ACS723xLCTR-40AU
designator *  value ACS723xLCTR-40AU
ki_keywords: hall effect current monitor sensor isolated; ki_description: 40A Unidirectional Hall-Effect Current Sensor, +5.0V supply, 100mV/A, SOIC-8; ki_fp_filters: SOIC*3.9x4.9mm*P1.27mm*; Footprint: Package_SO:SOIC-8_3.9x4.9mm_P1.27mm; Supplier: http://www.allegromicro.com/~/media/Files/Datasheets/ACS723-Datasheet.ashx?la=en
footprint SOIC-8_3.9x4.9mm_P1.27mm
pins: 1 IP+, 2 IP+ hidden, 3 IP-, 4 IP- hidden, 5 GND (power), 6 BW_SEL (in), 7 VIOUT (out), 8 VCC (power)

## ACS723xMATR-10AB
designator *  value ACS723xMATR-10AB
ki_keywords: hall effect current monitor sensor isolated; ki_description: ±10A Bidirectional Hall-Effect Current Sensor, +5.0V supply, 200mV/A, SOIC-16; ki_fp_filters: SOIC*7.5x10.3mm*P1.27mm*; Footprint: Package_SO:SOIC-16W_7.5x10.3mm_P1.27mm; Supplier: http://www.allegromicro.com/~/media/Files/Datasheets/ACS723KMA-Datasheet.ashx?la=en
footprint SOIC-16W_7.5x10.3mm_P1.27mm
pins: 1 IP+, 2 IP+ hidden, 3 IP+ hidden, 4 IP+ hidden, 5 IP-, 6 IP- hidden, 7 IP- hidden, 8 IP- hidden, 9 NC (in) hidden, 10 VCC (power), 11 NC, 12 VIOUT (out), 13 BW_SEL (in), 14 NC, 15 GND (power), 16 NC (in) hidden

## ACS723xMATR-20AB
designator *  value ACS723xMATR-20AB
ki_keywords: hall effect current monitor sensor isolated; ki_description: ±20A Bidirectional Hall-Effect Current Sensor, +5.0V supply, 100mV/A, SOIC-16; ki_fp_filters: SOIC*7.5x10.3mm*P1.27mm*; Footprint: Package_SO:SOIC-16W_7.5x10.3mm_P1.27mm; Supplier: http://www.allegromicro.com/~/media/Files/Datasheets/ACS723KMA-Datasheet.ashx?la=en
footprint SOIC-16W_7.5x10.3mm_P1.27mm
pins: 1 IP+, 2 IP+ hidden, 3 IP+ hidden, 4 IP+ hidden, 5 IP-, 6 IP- hidden, 7 IP- hidden, 8 IP- hidden, 9 NC (in) hidden, 10 VCC (power), 11 NC, 12 VIOUT (out), 13 BW_SEL (in), 14 NC, 15 GND (power), 16 NC (in) hidden

## ACS723xMATR-40AB
designator *  value ACS723xMATR-40AB
ki_keywords: hall effect current monitor sensor isolated; ki_description: ±40A Bidirectional Hall-Effect Current Sensor, +5.0V supply, 50mV/A, SOIC-16; ki_fp_filters: SOIC*7.5x10.3mm*P1.27mm*; Footprint: Package_SO:SOIC-16W_7.5x10.3mm_P1.27mm; Supplier: http://www.allegromicro.com/~/media/Files/Datasheets/ACS723KMA-Datasheet.ashx?la=en
footprint SOIC-16W_7.5x10.3mm_P1.27mm
pins: 1 IP+, 2 IP+ hidden, 3 IP+ hidden, 4 IP+ hidden, 5 IP-, 6 IP- hidden, 7 IP- hidden, 8 IP- hidden, 9 NC (in) hidden, 10 VCC (power), 11 NC, 12 VIOUT (out), 13 BW_SEL (in), 14 NC, 15 GND (power), 16 NC (in) hidden

## ACS724xLCTR-05AB
designator *  value ACS724xLCTR-05AB
ki_keywords: hall effect current monitor sensor isolated; ki_description: ±5A Bidirectional Hall-Effect Current Sensor, +5.0V supply, 400mV/A, SOIC-8; ki_fp_filters: SOIC*3.9x4.9m*P1.27mm*; Footprint: Package_SO:SOIC-8_3.9x4.9mm_P1.27mm; Supplier: http://www.allegromicro.com/~/media/Files/Datasheets/ACS724-Datasheet.ashx?la=en
footprint SOIC-8_3.9x4.9mm_P1.27mm
pins: 1 IP+, 2 IP+ hidden, 3 IP-, 4 IP- hidden, 5 GND (power), 6 FILTER, 7 VIOUT (out), 8 VCC (power)

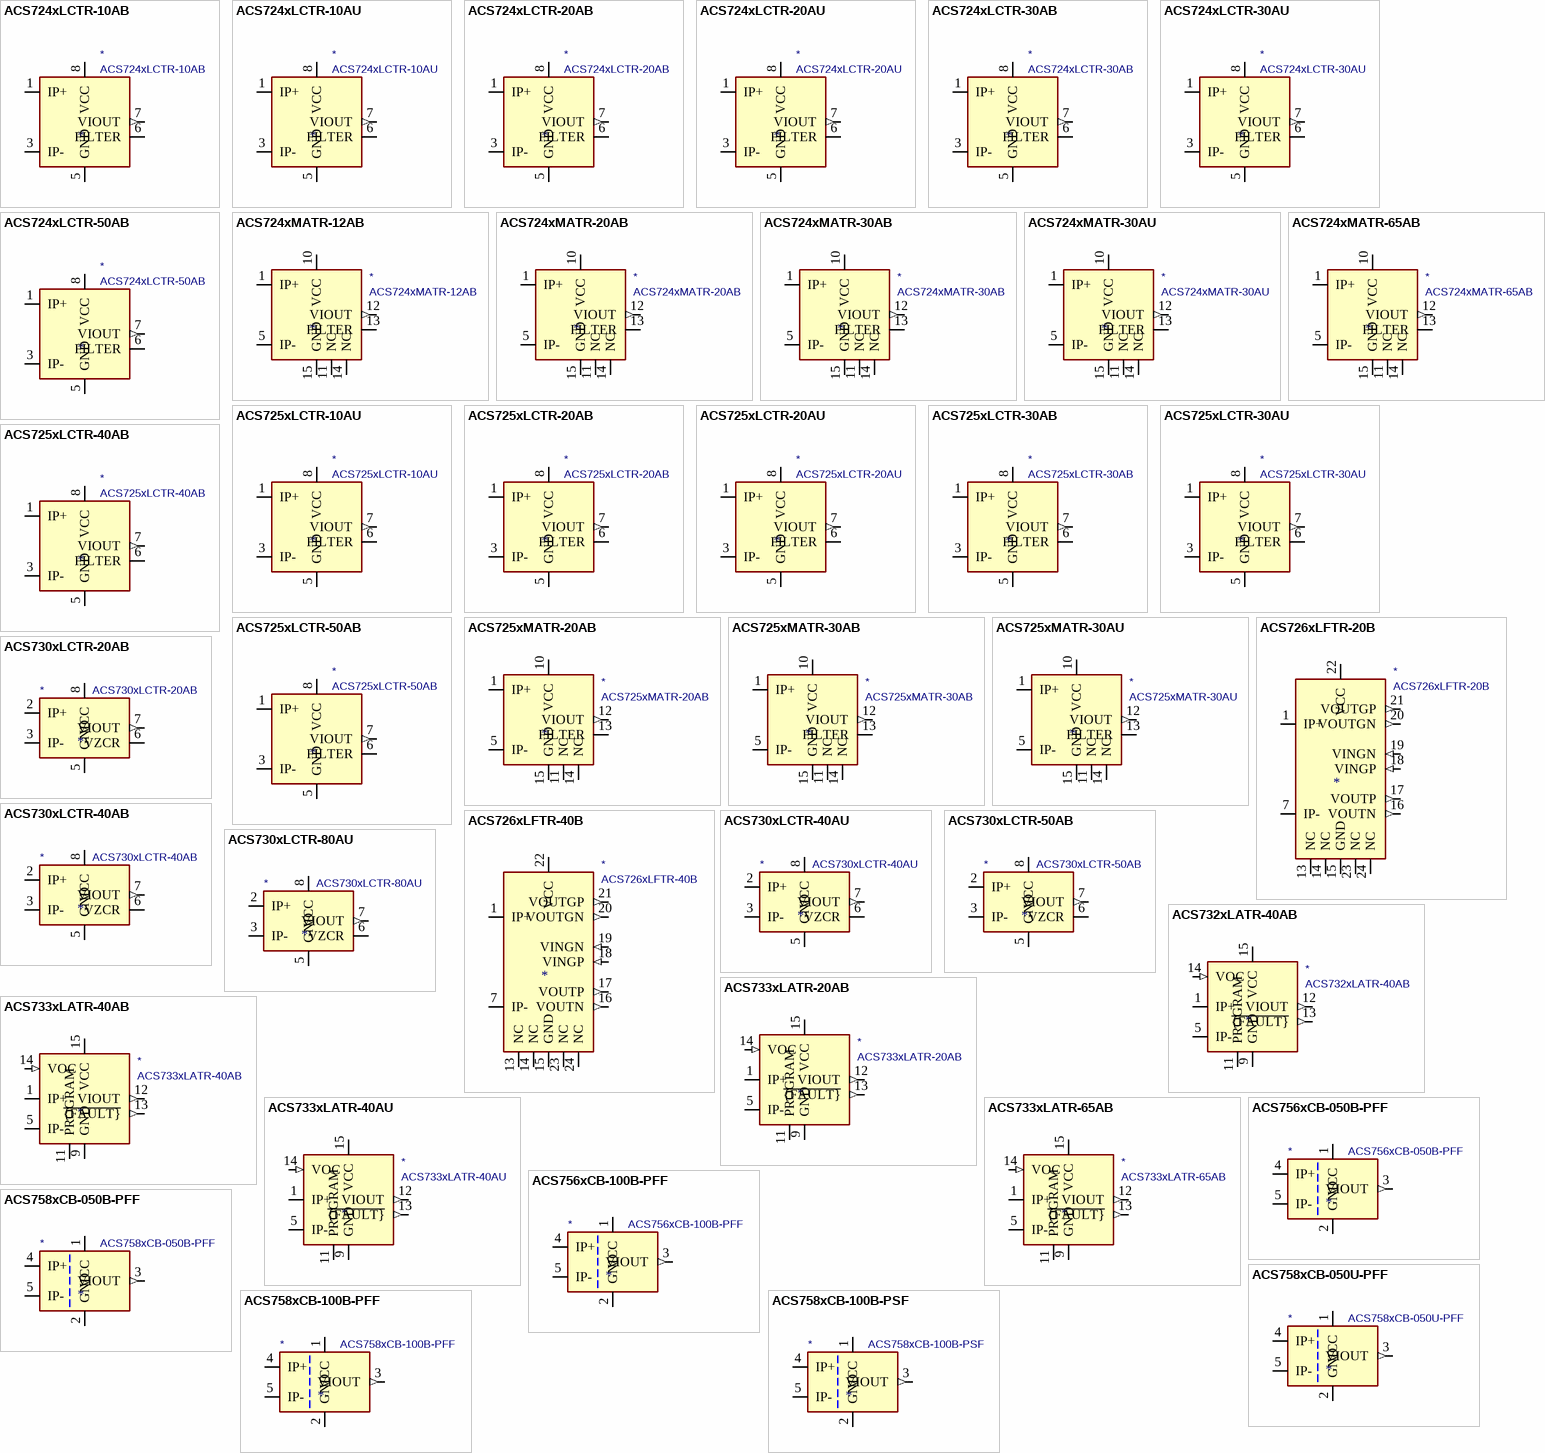
[diagram p2: symbols ACS724xLCTR-10AB to ACS758xCB-100B-PSF]

## ACS724xLCTR-10AB
designator *  value ACS724xLCTR-10AB
ki_keywords: hall effect current monitor sensor isolated; ki_description: ±10A Bidirectional Hall-Effect Current Sensor, +5.0V supply, 200mV/A, SOIC-8; ki_fp_filters: SOIC*3.9x4.9m*P1.27mm*; Footprint: Package_SO:SOIC-8_3.9x4.9mm_P1.27mm; Supplier: http://www.allegromicro.com/~/media/Files/Datasheets/ACS724-Datasheet.ashx?la=en
footprint SOIC-8_3.9x4.9mm_P1.27mm
pins: 1 IP+, 2 IP+ hidden, 3 IP-, 4 IP- hidden, 5 GND (power), 6 FILTER, 7 VIOUT (out), 8 VCC (power)

## ACS724xLCTR-10AU
designator *  value ACS724xLCTR-10AU
ki_keywords: hall effect current monitor sensor isolated; ki_description: 10A Unidirectional Hall-Effect Current Sensor, +5.0V supply, 400mV/A, SOIC-8; ki_fp_filters: SOIC*3.9x4.9m*P1.27mm*; Footprint: Package_SO:SOIC-8_3.9x4.9mm_P1.27mm; Supplier: http://www.allegromicro.com/~/media/Files/Datasheets/ACS724-Datasheet.ashx?la=en
footprint SOIC-8_3.9x4.9mm_P1.27mm
pins: 1 IP+, 2 IP+ hidden, 3 IP-, 4 IP- hidden, 5 GND (power), 6 FILTER, 7 VIOUT (out), 8 VCC (power)

## ACS724xLCTR-20AB
designator *  value ACS724xLCTR-20AB
ki_keywords: hall effect current monitor sensor isolated; ki_description: ±20A Bidirectional Hall-Effect Current Sensor, +5.0V supply, 100mV/A, SOIC-8; ki_fp_filters: SOIC*3.9x4.9m*P1.27mm*; Footprint: Package_SO:SOIC-8_3.9x4.9mm_P1.27mm; Supplier: http://www.allegromicro.com/~/media/Files/Datasheets/ACS724-Datasheet.ashx?la=en
footprint SOIC-8_3.9x4.9mm_P1.27mm
pins: 1 IP+, 2 IP+ hidden, 3 IP-, 4 IP- hidden, 5 GND (power), 6 FILTER, 7 VIOUT (out), 8 VCC (power)

## ACS724xLCTR-20AU
designator *  value ACS724xLCTR-20AU
ki_keywords: hall effect current monitor sensor isolated; ki_description: 20A Unidirectional Hall-Effect Current Sensor, +5.0V supply, 200mV/A, SOIC-8; ki_fp_filters: SOIC*3.9x4.9m*P1.27mm*; Footprint: Package_SO:SOIC-8_3.9x4.9mm_P1.27mm; Supplier: http://www.allegromicro.com/~/media/Files/Datasheets/ACS724-Datasheet.ashx?la=en
footprint SOIC-8_3.9x4.9mm_P1.27mm
pins: 1 IP+, 2 IP+ hidden, 3 IP-, 4 IP- hidden, 5 GND (power), 6 FILTER, 7 VIOUT (out), 8 VCC (power)

## ACS724xLCTR-30AB
designator *  value ACS724xLCTR-30AB
ki_keywords: hall effect current monitor sensor isolated; ki_description: ±30A Bidirectional Hall-Effect Current Sensor, +5.0V supply, 66mV/A, SOIC-8; ki_fp_filters: SOIC*3.9x4.9m*P1.27mm*; Footprint: Package_SO:SOIC-8_3.9x4.9mm_P1.27mm; Supplier: http://www.allegromicro.com/~/media/Files/Datasheets/ACS724-Datasheet.ashx?la=en
footprint SOIC-8_3.9x4.9mm_P1.27mm
pins: 1 IP+, 2 IP+ hidden, 3 IP-, 4 IP- hidden, 5 GND (power), 6 FILTER, 7 VIOUT (out), 8 VCC (power)

## ACS724xLCTR-30AU
designator *  value ACS724xLCTR-30AU
ki_keywords: hall effect current monitor sensor isolated; ki_description: 30A Unidirectional Hall-Effect Current Sensor, +5.0V supply, 133mV/A, SOIC-8; ki_fp_filters: SOIC*3.9x4.9m*P1.27mm*; Footprint: Package_SO:SOIC-8_3.9x4.9mm_P1.27mm; Supplier: http://www.allegromicro.com/~/media/Files/Datasheets/ACS724-Datasheet.ashx?la=en
footprint SOIC-8_3.9x4.9mm_P1.27mm
pins: 1 IP+, 2 IP+ hidden, 3 IP-, 4 IP- hidden, 5 GND (power), 6 FILTER, 7 VIOUT (out), 8 VCC (power)

## ACS724xLCTR-50AB
designator *  value ACS724xLCTR-50AB
ki_keywords: hall effect current monitor sensor isolated; ki_description: ±50A Bidirectional Hall-Effect Current Sensor, +5.0V supply, 40mV/A, SOIC-8; ki_fp_filters: SOIC*3.9x4.9m*P1.27mm*; Footprint: Package_SO:SOIC-8_3.9x4.9mm_P1.27mm; Supplier: http://www.allegromicro.com/~/media/Files/Datasheets/ACS724-Datasheet.ashx?la=en
footprint SOIC-8_3.9x4.9mm_P1.27mm
pins: 1 IP+, 2 IP+ hidden, 3 IP-, 4 IP- hidden, 5 GND (power), 6 FILTER, 7 VIOUT (out), 8 VCC (power)